# EAGLE library part CONN_9-1 (library molex)
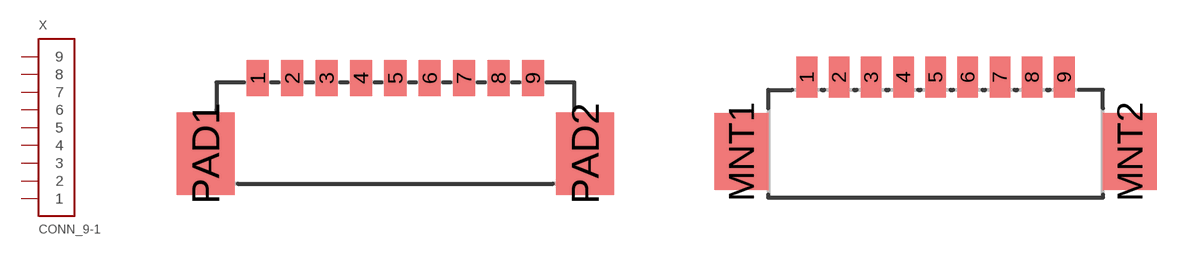
[diagram p8: symbol with the pads of PB-53398-09; footprints PB-53398-09, PB-53261-09]

Designator prefix X

## CONN_9-1-53398  [PB-53398-09]
1  1
2  2
3  3
4  4
5  5
6  6
7  7
8  8
9  9

## CONN_9-1-53261  [PB-53261-09]
Pads as for PB-53398-09

## CONN_9-1-53047  [PB-53047-09]
Pads as for PB-53398-09

## Footprint PB-53398-09 (pad centres in mm)
smd 0.8 x 1.3: 1 -5,1.25; 2 -3.75,1.25; 3 -2.5,1.25; 4 -1.25,1.25; 5 0,1.25; 6 1.25,1.25; 7 2.5,1.25; 8 3.75,1.25; 9 5,1.25
smd 2.1 x 3: PAD1 -6.9,-1.5; PAD2 6.9,-1.5

## Footprint PB-53261-09 (pad centres in mm)
smd 0.8 x 1.6: 1 -5,1.1; 2 -3.75,1.1; 3 -2.5,1.1; 4 -1.25,1.1; 5 0,1.1; 6 1.25,1.1; 7 2.5,1.1; 8 3.75,1.1; 9 5,1.1
smd 2.1 x 3: MNT1 -7.55,-1.8; MNT2 7.55,-1.8

## Footprint PB-53047-09 (pad centres in mm)
drill 0.5 round: 1 -5,0; 2 -3.75,0; 3 -2.5,0; 4 -1.25,0; 5 0,0; 6 1.25,0; 7 2.5,0; 8 3.75,0; 9 5,0